# Altium integrated library Passives.IntLib: 33 symbols
Pins are listed as number, name and electrical type; pins without a type are passive.

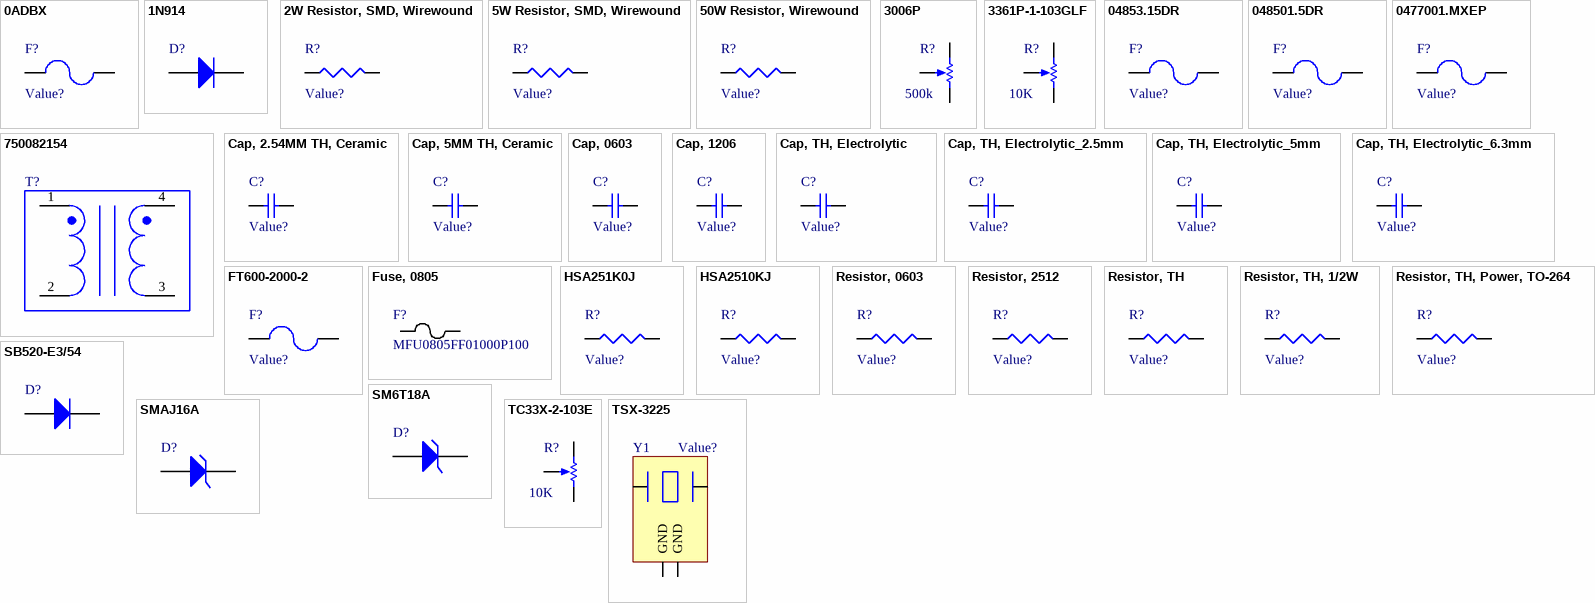
[diagram p0: symbols 0ADBX to TSX-3225]

## 0ADBX
designator F?, comment Value?
Bel Fuse 0ADBX Series Cartridge Fuse.; TargetLibrary: RITRacing-Passives; Publisher: T.Tallo; Published: 22Oct2016; Status: Active; Value: Value?; Manufactuer: Bel Fuse; Datasheet: https://www.mouser.com/datasheet/2/643/Bel_01242018_0ADBC_0ADBP-1282312.pdf; Part Number: 0ADBX
footprint FC-101-22 (Bel Fuse FC-101-22 Fuse Clips)
pins: 1, 2

## 1N914
designator D?
Diode, TH; TargetLibrary: RITRacing-Passives; Publisher: T.Tallo; Published: 22Oct2016; Status: Active
footprint Diode, TH (Axial Through Hole Diode 1N914)
pins: 1 A, 2 K

## 2W Resistor, SMD, Wirewound
designator R?, comment Value?
TE SM Series; TargetLibrary: RITRacing-Passives; MFG: TE Connectivity; Publisher: T.Tallo; Published: 22Oct2016; Status: Active; Value: Value?; Datasheet: https://www.te.com/commerce/DocumentDelivery/DDEController?Action=srchrtrv&DocNm=1773242&DocType=DS&DocLang=English
footprint 2616 (TE SM Series, SMD Wirewound Resistors)
pins: 1, 2

## 5W Resistor, SMD, Wirewound
designator R?, comment Value?
TE SM Series; TargetLibrary: RITRacing-Passives; MFG: TE Connectivity; Publisher: T.Tallo; Published: 22Oct2016; Status: Active; Value: Value?; Datasheet: https://www.te.com/commerce/DocumentDelivery/DDEController?Action=srchrtrv&DocNm=1773242&DocType=DS&DocLang=English
footprint 5329 (TE SM Series, SMD Wirewound Resistors)
pins: 1, 2

## 50W Resistor, Wirewound
designator R?, comment Value?
Generic Chassis Mount, Wirewound Resistor; TargetLibrary: RITRacing-Passives; Publisher: T.Tallo; Published: 22Oct2016; Status: Active; Value: Value?
footprint Wirewound Resistor, Chassis Mount (Generic Wirewound Resistor)
pins: 1, 2

## 3006P
designator R?, comment 500k
Trim Pot, 10k, TH; TargetLibrary: RITRacing-Resistors; MFG: Bourns; Publisher: T.Tallo; Published: 22Oct2016; Status: Active; Value: 500k; Datasheet: http://www.mouser.com/ds/2/54/314-776736.pdf
footprint Trim Pot,TH (Bourns Through Hole Trim)
pins: 1 VCC, 2 WIPER, 3 GND

## 3361P-1-103GLF
designator R?, comment 10K
Trim Pot, 10k, SMD; TargetLibrary: RITRacing-Resistors; MFG: Bourns; Publisher: T.Tallo; Published: 22Oct2016; Status: Active; Value: 10K; Datasheet: http://www.mouser.com/ds/2/54/361-776949.pdf
footprint 3361P-1-103GLF (Bourns SMD Trim Pot)
pins: 1 VCC, 2 WIPER, 3 GND

## 04853.15DR
designator F?, comment Value?
3.15A 600VDC Fuse, SMD Mount; Manufactuer: Littlefuse; Part Number: 04853.15DR; TargetLibrary: RITRacing-Passives; Publisher: T.Tallo; Published: 22Oct2016; Status: Active; Value: Value?; Datasheet: https://www.littelfuse.com/~/media/electronics/datasheets/fuses/littelfuse_fuse_485_datasheet.pdf.pdf
footprint 048501.5DR (LittleFuse SMD Fuse)
pins: 1, 2

## 048501.5DR
designator F?, comment Value?
1.5A 600VDC Fuse, SMD Mount; Manufactuer: Littlefuse; Part Number: 048501.5DR; TargetLibrary: RITRacing-Passives; Publisher: T.Tallo; Published: 22Oct2016; Status: Active; Value: Value?; Datasheet: https://www.littelfuse.com/~/media/electronics/datasheets/fuses/littelfuse_fuse_485_datasheet.pdf.pdf
footprint 048501.5DR (LittleFuse SMD Fuse)
pins: 1, 2

## 0477001.MXEP
designator F?, comment Value?
Fuse, PCB Mount; Manufactuer: Littlefuse; Part Number: 0477001.MXEP; TargetLibrary: RITRacing-Passives; Publisher: T.Tallo; Published: 22Oct2016; Status: Active; Value: Value?; Datasheet: http://www.mouser.com/ds/2/240/Littelfuse_Fuse_477-67602.pdf
footprint 0477001.MXEP (Axial Through Hole Fuse)
pins: 1, 2

## 750082154
designator T?
SMD Pulse Transformer; Value: 10K; MFG: Wurth Elektronik; Publisher: T.Tallo; Published: 19June2018; Status: Active; Datasheet: https://katalog.we-online.de/ctm/datasheet/750082154.pdf
footprint 750082154 (Wurth Pulse Transformer)
pins: 1, 2, 3, 4

## Cap, 2.54MM TH, Ceramic
designator C?, comment Value?
Generic Cap, 2.54MM TH, Ceramic; TargetLibrary: RITRacing-Passives; Publisher: T.Tallo; Published: 22Oct2016; Status: Active; Value: Value?
footprint Cap, 2.54MM TH, Ceramic (Through Hole Cap, Ceramic)
pins: 1 Pos, 2 Neg

## Cap, 5MM TH, Ceramic
designator C?, comment Value?
Generic Cap, 5MM TH, Ceramic; TargetLibrary: RITRacing-Passives; Publisher: T.Tallo; Published: 22Oct2016; Status: Active; Value: Value?
footprint Cap, 5mm TH, Ceramic (Through Hole Cap, Ceramic)
pins: 1 Pos, 2 Neg

## Cap, 0603
designator C?, comment Value?
Generic SMD Cap, 0603 Package; TargetLibrary: RITRacing-Passives; Publisher: T.Tallo; Published: 22Oct2016; Status: Active; Value: Value?
footprint Cap, 0603 (Generic 0603 SMD CAP)
pins: 1 Pos, 2 Neg

## Cap, 1206
designator C?, comment Value?
Generic SMD Cap, 1206 Package; TargetLibrary: RITRacing-Passives; Publisher: T.Tallo; Published: 22Oct2016; Status: Active; Value: Value?
footprint Cap, 1206 (Generic 1206 SMD CAP)
pins: 1 Pos, 2 Neg

## Cap, TH, Electrolytic
designator C?, comment Value?
Generic Cap, TH, Electrolytic; TargetLibrary: RITRacing-Passives; Publisher: T.Tallo; Published: 22Oct2016; Status: Active; Value: Value?
footprint Cap, TH, Electrolytic (Through Hole Electrolytic CAP)
pins: 1 Pos, 2 Neg

## Cap, TH, Electrolytic_2.5mm
designator C?, comment Value?
Generic Cap, TH, Electrolytic; TargetLibrary: RITRacing-Passives; Publisher: T.Tallo; Published: 22Oct2016; Status: Active; Value: Value?
footprint Cap, TH, Electrolytic, 2.5mm (Through Hole Electrolytic CAP)
pins: 1 Pos, 2 Neg

## Cap, TH, Electrolytic_5mm
designator C?, comment Value?
Generic Cap, TH, Electrolytic; TargetLibrary: RITRacing-Passives; Publisher: T.Tallo; Published: 22Oct2016; Status: Active; Value: Value?
footprint Cap, TH, Electrolytic, 5mm (Through Hole Electrolytic CAP)
pins: 1 Pos, 2 Neg

## Cap, TH, Electrolytic_6.3mm
designator C?, comment Value?
Generic Cap, TH, Electrolytic; TargetLibrary: RITRacing-Passives; Publisher: T.Tallo; Published: 22Oct2016; Status: Active; Value: Value?
footprint Cap, TH, Electrolytic, 6.3mm (Through Hole Electrolytic CAP)
pins: 1 Pos, 2 Neg

## FT600-2000-2
designator F?, comment Value?
Fuse, SMD Mount; Manufactuer: Littlefuse; Part Number: FT600-2000-2; TargetLibrary: RITRacing-Passives; Publisher: T.Tallo; Published: 22Oct2016; Status: Active; Value: Value?; Datasheet: http://www.mouser.com/ds/2/240/telecom-fuses-1074855.pdf
footprint FT600-2000-2 (LittleFuse SMD Fuse)
pins: 1, 2

## Fuse, 0805
designator F?, comment MFU0805FF01000P100
Generic 0805 Fuse; Vendor: VISHAY; Built_By: EMA_UL_Team; SourceLibrary: Vishay_2010-01-01_FUSE_MFU; Type: DEV; Manufacturer_Part_Number: MFU0805FF01000P100; Copyright: Copyright (C) 2018 Accelerated Designs. All rights reserved; RefDes: RefDes
footprint Fuse, 0805 (Generic 0805 SMD Fuse)
pins: 1, 2

## HSA251K0J
designator R?, comment Value?
25W 1k Chassis Mount, Wirewound Resistor; TargetLibrary: RITRacing-Passives; Publisher: T.Tallo; Published: 22Oct2016; Status: Active; Value: Value?
footprint 25W Wirewound Resistor, Chassis Mount (25W Aluminum Wire Wound Resistor)
pins: 1, 2

## HSA2510KJ
designator R?, comment Value?
25W 10k Chassis Mount, Wirewound Resistor; TargetLibrary: RITRacing-Passives; Publisher: T.Tallo; Published: 22Oct2016; Status: Active; Value: Value?
footprint 25W Wirewound Resistor, Chassis Mount (25W Aluminum Wire Wound Resistor)
pins: 1, 2

## Resistor, 0603
designator R?, comment Value?
Generic SMD Resistor, 0603 Package; TargetLibrary: RITRacing-Passives; Publisher: T.Tallo; Published: 22Oct2016; Status: Active; Value: Value?
footprint Resistor, 0603 (Generic 0603 SMD Resistor)
pins: 1, 2

## Resistor, 2512
designator R?, comment Value?
Generic SMD Resistor, 2512 Package; TargetLibrary: RITRacing-Passives; Publisher: T.Tallo; Published: 22Oct2016; Status: Active; Value: Value?
footprint Resistor, 2512 (Generic 2512 SMD Resistor)
pins: 1, 2

## Resistor, TH
designator R?, comment Value?
Generic TH Resistor; TargetLibrary: RITRacing-Passives; Publisher: T.Tallo; Published: 22Oct2016; Status: Active; Value: Value?
footprint Resistor, TH (Axial Through Hole Resistor)
pins: 1, 2

## Resistor, TH, 1/2W
designator R?, comment Value?
TH Power Resistor, 1/2W; TargetLibrary: RITRacing-Passives; Publisher: T.Tallo; Published: 22Oct2016; Status: Active; Value: Value?
footprint Resistor, TH, 1/2W (Axial Through Hole Power Resistor)
pins: 1, 2

## Resistor, TH, Power, TO-264
designator R?, comment Value?
TH Power Resistor,; TargetLibrary: RITRacing-Passives; Publisher: T.Tallo; Published: 22Oct2016; Status: Active; Value: Value?
footprint TO-264-2- Angled (Through Hole Power Resitor Footprint)
pins: 1, 2

## SB520-E3/54
designator D?
Diode, TH, PWR; PartNumber: SB520-E3/54; TargetLibrary: RITRacing-Passives; Publisher: T.Tallo; Published: 22Oct2016; Status: Active
footprint DO-201AD (Through Hole, Axial Diode Package)
pins: 1 A, 2 K

## SM6T18A
designator D?
TVS Diode, SMD Mount; PartNumber: SM6T18A; TargetLibrary: RITRacing-Passives; MFG: STMicro; Publisher: T.Tallo; Published: 22Oct2016; Status: Active
footprint DO-214AA (SMD Diode Package)
pins: 1 A, 2 K

## SMAJ16A
designator D?
TVS Diode, SMD Mount, 16V Withstand, 17.8V Breakdown, 400W; PartNumber: SMAJ16A; TargetLibrary: RITRacing-Passives; MFG: Littlefuse; Publisher: T.Tallo; Published: 22Oct2016; Status: Active
footprint DO-214AC (SMD Diode Package)
pins: 1 A, 2 K

## TC33X-2-103E
designator R?, comment 10K
Trim Pot, 10k, SMD; TargetLibrary: RITRacing-Resistors; MFG: Bourns; Publisher: T.Tallo; Published: 19June2018; Status: Active; Value: 10K; Datasheet: http://www.bourns.com/docs/Product-Datasheets/TC33.pdf
footprint TC33X-2-103E (Bourns SMD Trim Pot)
pins: 1 VCC, 2 WIPER, 3 GND

## TSX-3225
designator Y1, comment Value?
SMD Crystal, Epson TSX-3225 Series; TargetLibrary: RITRacing-Passives; Publisher: T.Tallo; Published: 22Oct2016; Status: Active; Value: Value?
footprint TSX-3225 (Epson TSX-3225 Crystal Footprint)
pins: 1, 2 GND, 3, 4 GND